# EAGLE library part MIC5321 (library haptic-inu)
Voltage Regulator LDO Dual, High Performancs 150mA uCap ULDO
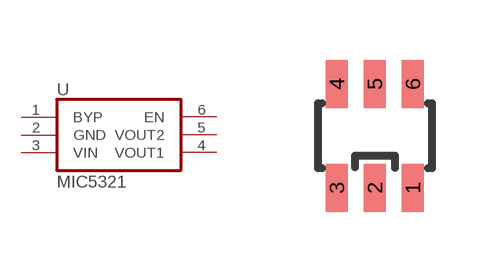
[diagram p6: symbol with the pads of SOT23-6; footprint SOT23-6]

Designator prefix -

## MIC5321SOT23-6  [SOT23-6]
1  BYP  pas
2  GND  pas
3  VIN  pwr
4  VOUT1  out
5  VOUT2  out
6  EN  in

## Footprint SOT23-6 (pad centres in mm)
smd 0.55 x 1.2: 1 0.95,-1.3; 2 0,-1.3; 3 -0.95,-1.3; 4 -0.95,1.3; 5 0,1.3; 6 0.95,1.3